# EAGLE library part SN65HVD230? (library ti)
SN65HVD23x 3.3-V CAN Bus Transceivers
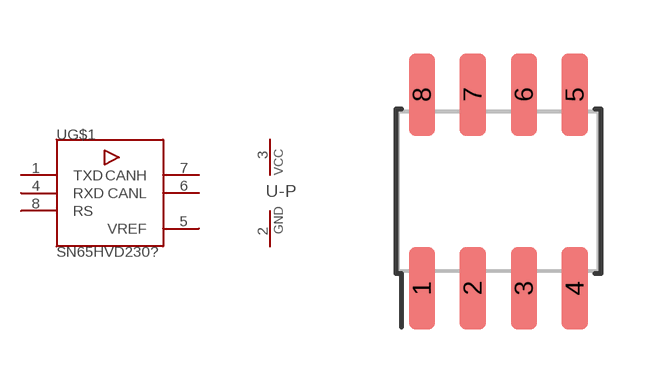
[diagram p0: symbol with the pads of SOIC8P127_490X600X175L84X41T0X0N_10X20X0L44X10; footprint SOIC8P127_490X600X175L84X41T0X0N_10X20X0L44X10]

Designator prefix U; gates G$1=SN65HVD230 -P=CMOS_POWER

## SN65HVD230D (HEIGHT: 1.75; IDF_FAMILYNAME: JEDEC_MS-012F; IDF_PARTNUMBER: AA; PARTNUMBER: SN65HVD230D)  [SOIC8P127_490X600X175L84X41T0X0N_10X20X0L44X10]
1  G$1:TXD  in
2  -P:GND  pwr
3  -P:VCC  pwr
4  G$1:RXD  out
5  G$1:VREF  out
6  G$1:CANL
7  G$1:CANH
8  G$1:RS  in

## Footprint SOIC8P127_490X600X175L84X41T0X0N_10X20X0L44X10 (pad centres in mm)
Small Outline Integrated Circuit (8 pins, 1.27mm pitch) Nominal Material Condition Body (LxWxH): 4.90mm x 3.90mm x 1.75mm Lead (L): 0.83mm IPC Component Parameters materialCondition | 1 | Nominal (Nominal Density) n | 8 e | 1.270000 A | 1.750000 | 1.750000 D | 4.800000 | 5.000000 E | 5.800000 | 6.200000 E1 | 3.800000 | 4.000000 b | 0.310000 | 0.510000 L | 0.400000 | 1.270000 ep_D2 | 0.000000 ep_E2 | 0.000000 ep_tr | 0.000000 ep_tc | 0.000000 ep_pmc | 100.000000 ep_pmp | 0 | solid ep_pmspace | 0.500000 IPC Library Parameters fabTol | 0.050000 placeTol | 0.025000 padPlaceRoundOff | 0.010000 padSizeRoundOff | 0.010000 cornerRadius | 25.000000 cornerRadiusLimit | 0.250000 cornerRadiusRoundOff | 0.010000 thtPadSizeRoundOff | 0.010000 thtCourtyardExcess | 0.250000 thtCourtyardRound | 0.010000 thtHoleOverRoundLead | 0.200000 thtHoleOverRectangularLead | 0.150000 thtMinimumAnnularRing | 0.200000 thtPadToHoleRatio | 1.500000 courtyardLineWidth | 0.050000 legendLineWidth | 0.100000 | 0.120000 | 0.150000 legendClearance | 0.100000 | 0.120000 | 0.150000 legendFontHeight | 1.000000 | 1.200000 | 1.500000 legendFontRatio | 10.000000 legendRoundOff | 0.010000 componentFontHeight | 2.000000 componentLineWidth | 0.100000 componentRoundOff | 0.010000 Package generated by: sop.ulp
smd 0.66 x 2.07: 1 -1.91,-2.42; 2 -0.64,-2.42; 3 0.64,-2.42; 4 1.91,-2.42; 5 1.91,2.42; 6 0.64,2.42; 7 -0.64,2.42; 8 -1.91,2.42